# Altium schematic symbol library SIMBOLS_DATA_CONVERTERS.SchLib: 40 symbols
Pins are listed as number, name and electrical type; pins without a type are passive.

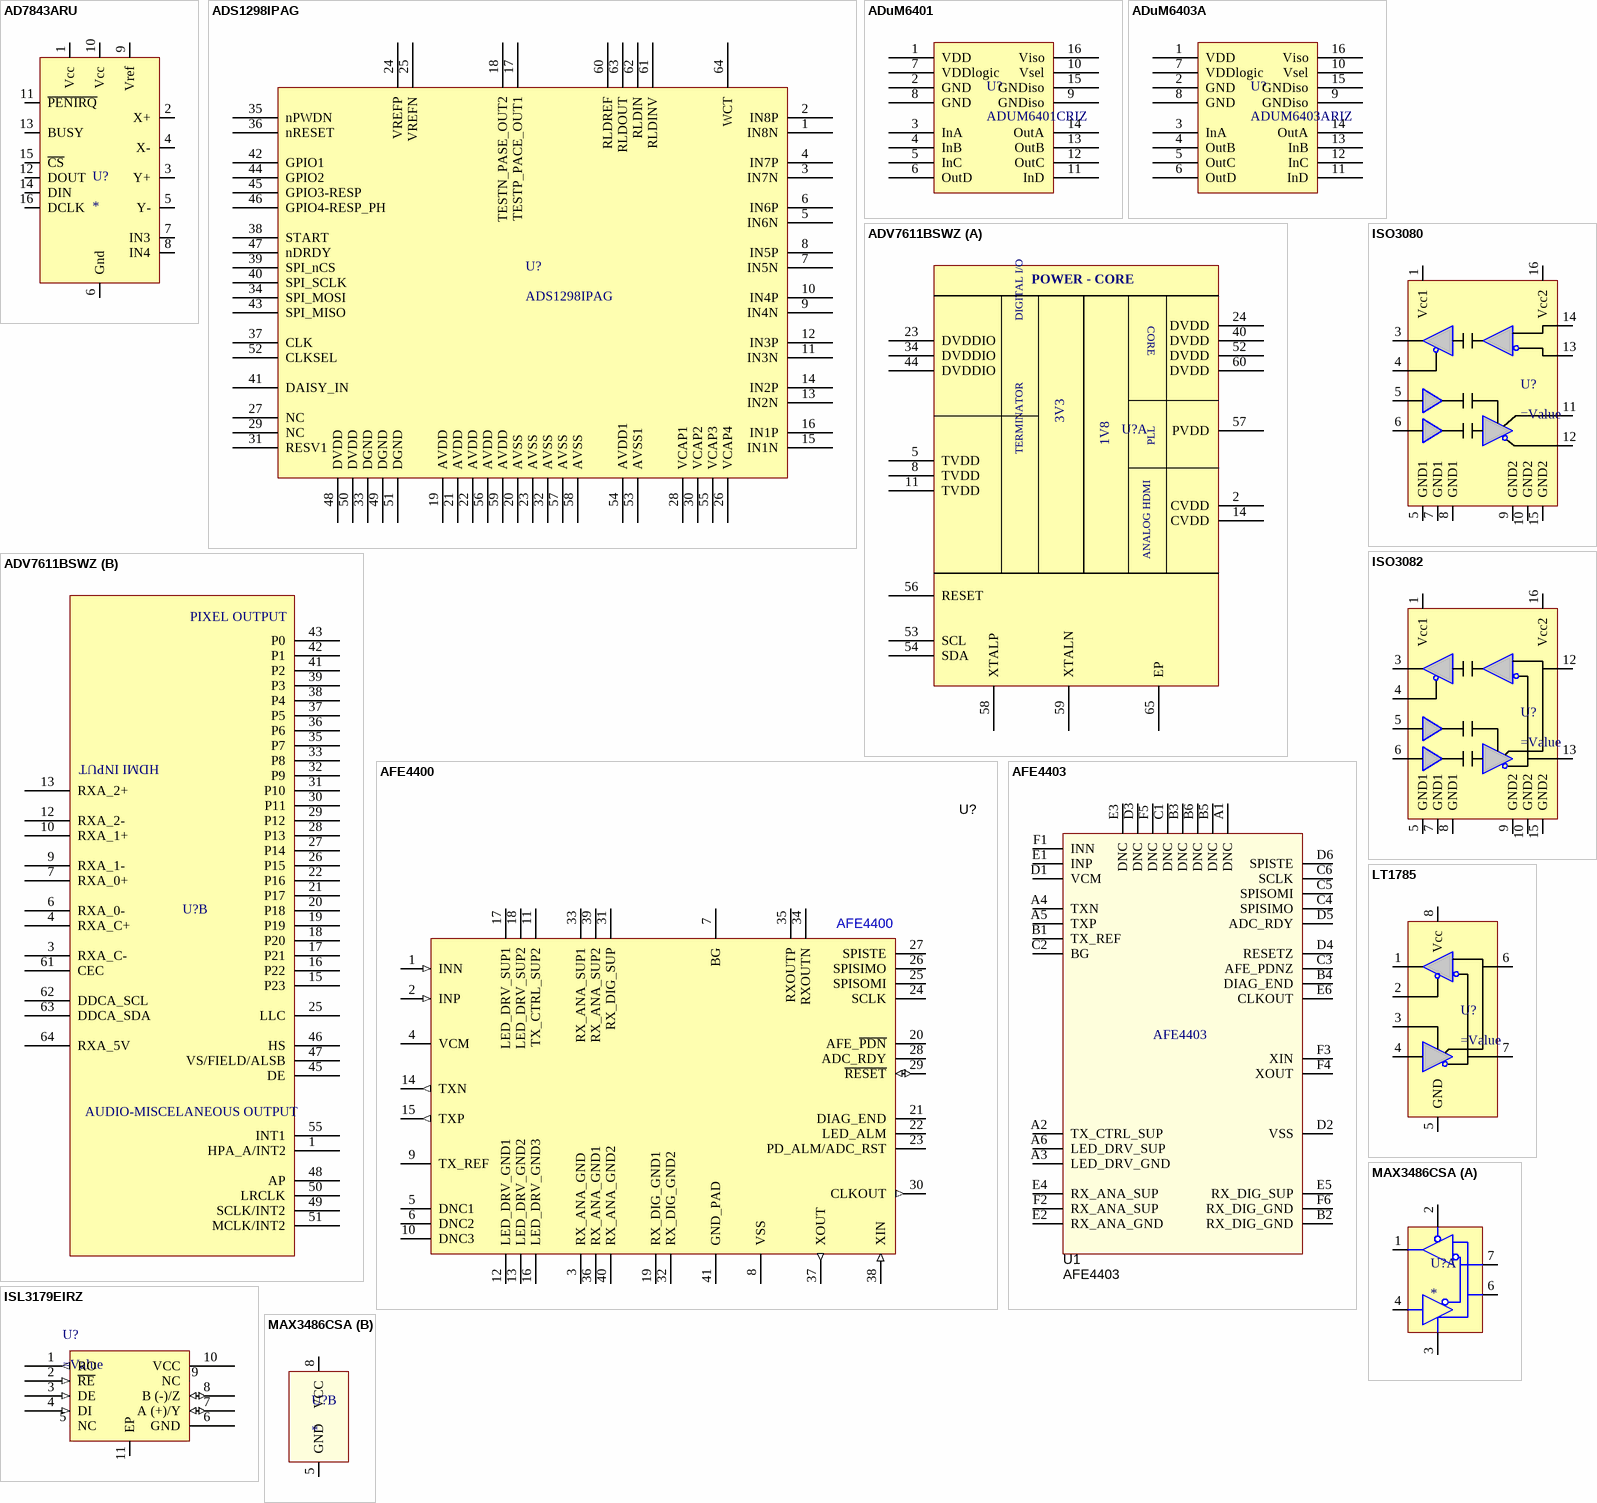
[diagram p0: symbols AD7843ARU to MAX3486CSA]

## AD7843ARU
designator U?
Touch Screen Digitizer
footprint TSSOP16
pins: 1 Vcc, 2 X+, 3 Y+, 4 X-, 5 Y-, 6 Gnd, 7 IN3, 8 IN4, 9 Vref, 10 Vcc, 11 ~{PENIRQ}, 12 DOUT, 13 BUSY, 14 DIN, 15 ~{CS}, 16 DCLK

## ADS1298IPAG
designator U?
Low-Power, 8-Channel, 24-Bit Analog Front-End for Biopotential Measurements
footprint SQFP50P1200X1200-64N (Shrink QFP, 64-Leads, Body 10x10mm, Pitch 0.5mm, IPC Medium Density)
pins: 1 IN8N, 2 IN8P, 3 IN7N, 4 IN7P, 5 IN6N, 6 IN6P, 7 IN5N, 8 IN5P, 9 IN4N, 10 IN4P, 11 IN3N, 12 IN3P, 13 IN2N, 14 IN2P, 15 IN1N, 16 IN1P, 17 TESTP_PACE_OUT1, 18 TESTN_PASE_OUT2, 19 AVDD, 20 AVSS, 21 AVDD, 22 AVDD, 23 AVSS, 24 VREFP, 25 VREFN, 26 VCAP4, 27 NC, 28 VCAP1, 29 NC, 30 VCAP2, 31 RESV1, 32 AVSS, 33 DGND, 34 SPI_MOSI, 35 nPWDN, 36 nRESET, 37 CLK, 38 START, 39 SPI_nCS, 40 SPI_SCLK, 41 DAISY_IN, 42 GPIO1, 43 SPI_MISO, 44 GPIO2, 45 GPIO3-RESP, 46 GPIO4-RESP_PH, 47 nDRDY, 48 DVDD, 49 DGND, 50 DVDD, 51 DGND, 52 CLKSEL, 53 AVSS1, 54 AVDD1, 55 VCAP3, 56 AVDD, 57 AVSS, 58 AVSS, 59 AVDD, 60 RLDREF, 61 RLDINV, 62 RLDIN, 63 RLDOUT, 64 WCT

## ADuM6401
designator U?, comment ADUM6401CRIZ
isolated DC/DC + quad channels
footprint SOIC127P1030-16CN (SOIC, 16-Leads, Body 10.5x7.5mm, Pitch 1.27mm, IPC Medium Density)
pins: 1 VDD, 2 GND, 3 InA, 4 InB, 5 InC, 6 OutD, 7 VDDlogic, 8 GND, 9 GNDiso, 10 Vsel, 11 InD, 12 OutC, 13 OutB, 14 OutA, 15 GNDiso, 16 Viso

## ADuM6403A
designator U?, comment ADUM6403ARIZ
isolated DC/DC + quad channels
footprint SOIC127P1030-16CN (SOIC, 16-Leads, Body 10.5x7.5mm, Pitch 1.27mm, IPC Medium Density)
pins: 1 VDD, 2 GND, 3 InA, 4 OutB, 5 OutC, 6 OutD, 7 VDDlogic, 8 GND, 9 GNDiso, 10 Vsel, 11 InD, 12 InC, 13 InB, 14 OutA, 15 GNDiso, 16 Viso

## ADV7611BSWZ
designator U?, comment HDMI INPUT  (value not drawn)
Low Power 165 MHz HDMI Receiver; Supplier 1: Farnell; Supplier Part Number 1: 1903660
footprint TSQFP50P1200X1200_HS-64L (Thin QFP, 64-Leads, Body 10x10mm, Pitch 0.5mm, Exposed Pad, IPC High Density)
part A pins: 2 CVDD (power) "Power", 5 TVDD (power) "Power", 8 TVDD (power) "Power", 11 TVDD (power) "Power", 14 CVDD (power) "Power", 23 DVDDIO (power) "Power", 24 DVDD (power) "Power", 34 DVDDIO (power) "Power", 40 DVDD (power) "Power", 44 DVDDIO (power) "Power", 52 DVDD (power) "Power", 53 SCL "Miscellaneous digital", 54 SDA "Miscellaneous digital", 56 RESET "Miscellaneous digital", 57 PVDD (power) "Power", 58 XTALP "Miscellaneous digital", 59 XTALN "Miscellaneous digital", 60 DVDD (power) "Power", 65 EP "Exposed Pad"
part B pins: 1 HPA_A/INT2 "Miscellaneous digital", 3 RXA_C- "HDMI input", 4 RXA_C+ "HDMI input", 6 RXA_0- "HDMI input", 7 RXA_0+ "HDMI input", 9 RXA_1- "HDMI input", 10 RXA_1+ "HDMI input", 12 RXA_2- "HDMI input", 13 RXA_2+ "HDMI input", 15 P23 "Digital video output", 16 P22 "Digital video output", 17 P21 "Digital video output", 18 P20 "Digital video output", 19 P19 "Digital video output", 20 P18 "Digital video output", 21 P17 "Digital video output", 22 P16 "Digital video output", 25 LLC "Digital video output", 26 P15 "Digital video output", 27 P14 "Digital video output", 28 P13 "Digital video output", 29 P12 "Digital video output", 30 P11 "Digital video output", 31 P10 "Digital video output", 32 P9 "Digital video output", 33 P8 "Digital video output", 35 P7 "Digital video output", 36 P6 "Digital video output", 37 P5 "Digital video output", 38 P4 "Digital video output", 39 P3 "Digital video output", 41 P2 "Digital video output", 42 P1 "Digital video output", 43 P0 "Digital video output", 45 DE "Miscellaneous digital", 46 HS "Digital video output", 47 VS/FIELD/ALSB "Digital input/output", 48 AP "Miscellaneous digital", 49 SCLK/INT2 "Miscellaneous digital", 50 LRCLK "Miscellaneous digital", 51 MCLK/INT2 "Miscellaneous digital", 55 INT1 "Miscellaneous digital", 61 CEC "Digital input/output", 62 DDCA_SCL "HDMI input", 63 DDCA_SDA "HDMI input", 64 RXA_5V "HDMI input"
part A text: POWER - CORE; DIGITAL I/O; CORE; 3V3; 1V8; PLL; TERMINATOR; ANALOG HDMI
part B text: PIXEL OUTPUT; AUDIO-MISCELANEOUS OUTPUT

## AFE4400
designator U?  value AFE4400
IC, INTEGRATED ANALOG FRONT-END FOR HEART RATE MONITORS AND LOW-COST PULSE OXIMETERS, QFN-40; MANUFACTURER: TEXAS INSTRUMENTS; POPULATE: Y; PART NUMBER: AFE4400; CONSIGNED: Y
pins: 1 INN (in), 2 INP (in), 3 RX_ANA_GND (power), 4 VCM (power), 5 DNC1, 6 DNC2, 7 BG, 8 VSS (power), 9 TX_REF (power), 10 DNC3, 11 TX_CTRL_SUP2 (power), 12 LED_DRV_GND1 (power), 13 LED_DRV_GND2 (power), 14 TXN (out), 15 TXP (out), 16 LED_DRV_GND3 (power), 17 LED_DRV_SUP1 (power), 18 LED_DRV_SUP2 (power), 19 RX_DIG_GND1 (power), 20 AFE_~{PDN} (power), 21 DIAG_END, 22 LED_ALM, 23 PD_ALM/ADC_RST, 24 SCLK, 25 SPISOMI, 26 SPISIMO, 27 SPISTE, 28 ADC_RDY, 29 ~{RESET} (io), 30 CLKOUT (out), 31 RX_DIG_SUP (power), 32 RX_DIG_GND2 (power), 33 RX_ANA_SUP1 (power), 34 RXOUTN, 35 RXOUTP, 36 RX_ANA_GND1 (power), 37 XOUT (out), 38 XIN (in), 39 RX_ANA_SUP2 (power), 40 RX_ANA_GND2 (power), 41 GND_PAD (power)

## AFE4403
designator U1
BGA, 36 PINS; Manufacturer: TEXAS INSTRUMENTS; Alternate Manufacturer: -; Alternate PartNumber: -; ComponentLink1Description: Datasheet Link; ComponentLink1URL: TBD; CompType: -; MountType: SMT; PackageReference: YZP; PartNumber: AFE4403; RoHS: TBD; SymbolCreator: -; SymbolVersion: 2013-11-08
footprint BGA36C50P6X6_304X304X50 (BGA, 0.5mm pitch, 6X6, 36 pins)
pins: A1 DNC, A2 TX_CTRL_SUP, A3 LED_DRV_GND (power), A4 TXN, A5 TXP, A6 LED_DRV_SUP, B1 TX_REF, B2 RX_DIG_GND (power), B3 DNC, B4 DIAG_END, B5 DNC, B6 DNC, C1 DNC, C2 BG, C3 AFE_PDNZ, C4 SPISIMO, C5 SPISOMI, C6 SCLK, D1 VCM, D2 VSS (power), D3 DNC, D4 RESETZ, D5 ADC_RDY, D6 SPISTE, E1 INP, E2 RX_ANA_GND (power), E3 DNC, E4 RX_ANA_SUP, E5 RX_DIG_SUP, E6 CLKOUT, F1 INN, F2 RX_ANA_SUP, F3 XIN, F4 XOUT, F5 DNC, F6 RX_DIG_GND (power)

## ISL3179EIRZ
designator U?
pins: 1 RO (out), 2 ~{RE} (in), 3 DE (in), 4 DI (in), 5 NC, 6 GND (power), 7 A (+)/Y (io), 8 B (-)/Z (io), 9 NC, 10 VCC (power), 11 EP (power)

## ISO3080
designator U?
pins: 1 Vcc1, 3 RO, 4 ~{RE}, 5 DE, 5 GND1, 6 DI, 7 GND1, 8 GND1, 9 GND2, 10 GND2, 11, 12 A, 13 B, 14, 15 GND2, 16 Vcc2

## ISO3082
designator U?
pins: 1 Vcc1, 3 RO, 4 ~{RE}, 5 DE, 5 GND1, 6 DI, 7 GND1, 8 GND1, 9 GND2, 10 GND2, 12 A, 13 B, 15 GND2, 16 Vcc2

## LT1785
designator U?
pins: 1 RO, 2 ~{RE}, 3 DE, 4 DI, 5 GND, 6 A, 7 B, 8 Vcc

## MAX3486CSA
designator U?
3.3V-Powered, 10Mbps and Slew-Rate-Limited  True RS-485/RS-422 Transceivers
footprint SOIC127P600-8N (SOIC, 8-Leads, Body 4.9x3.9mm, Pitch 1.27mm, IPC Medium Density)
part A pins: 1 R, 2 ~{RE}, 3 DE, 4 D, 6 A, 7 B
part B pins: 5 GND, 8 VCC

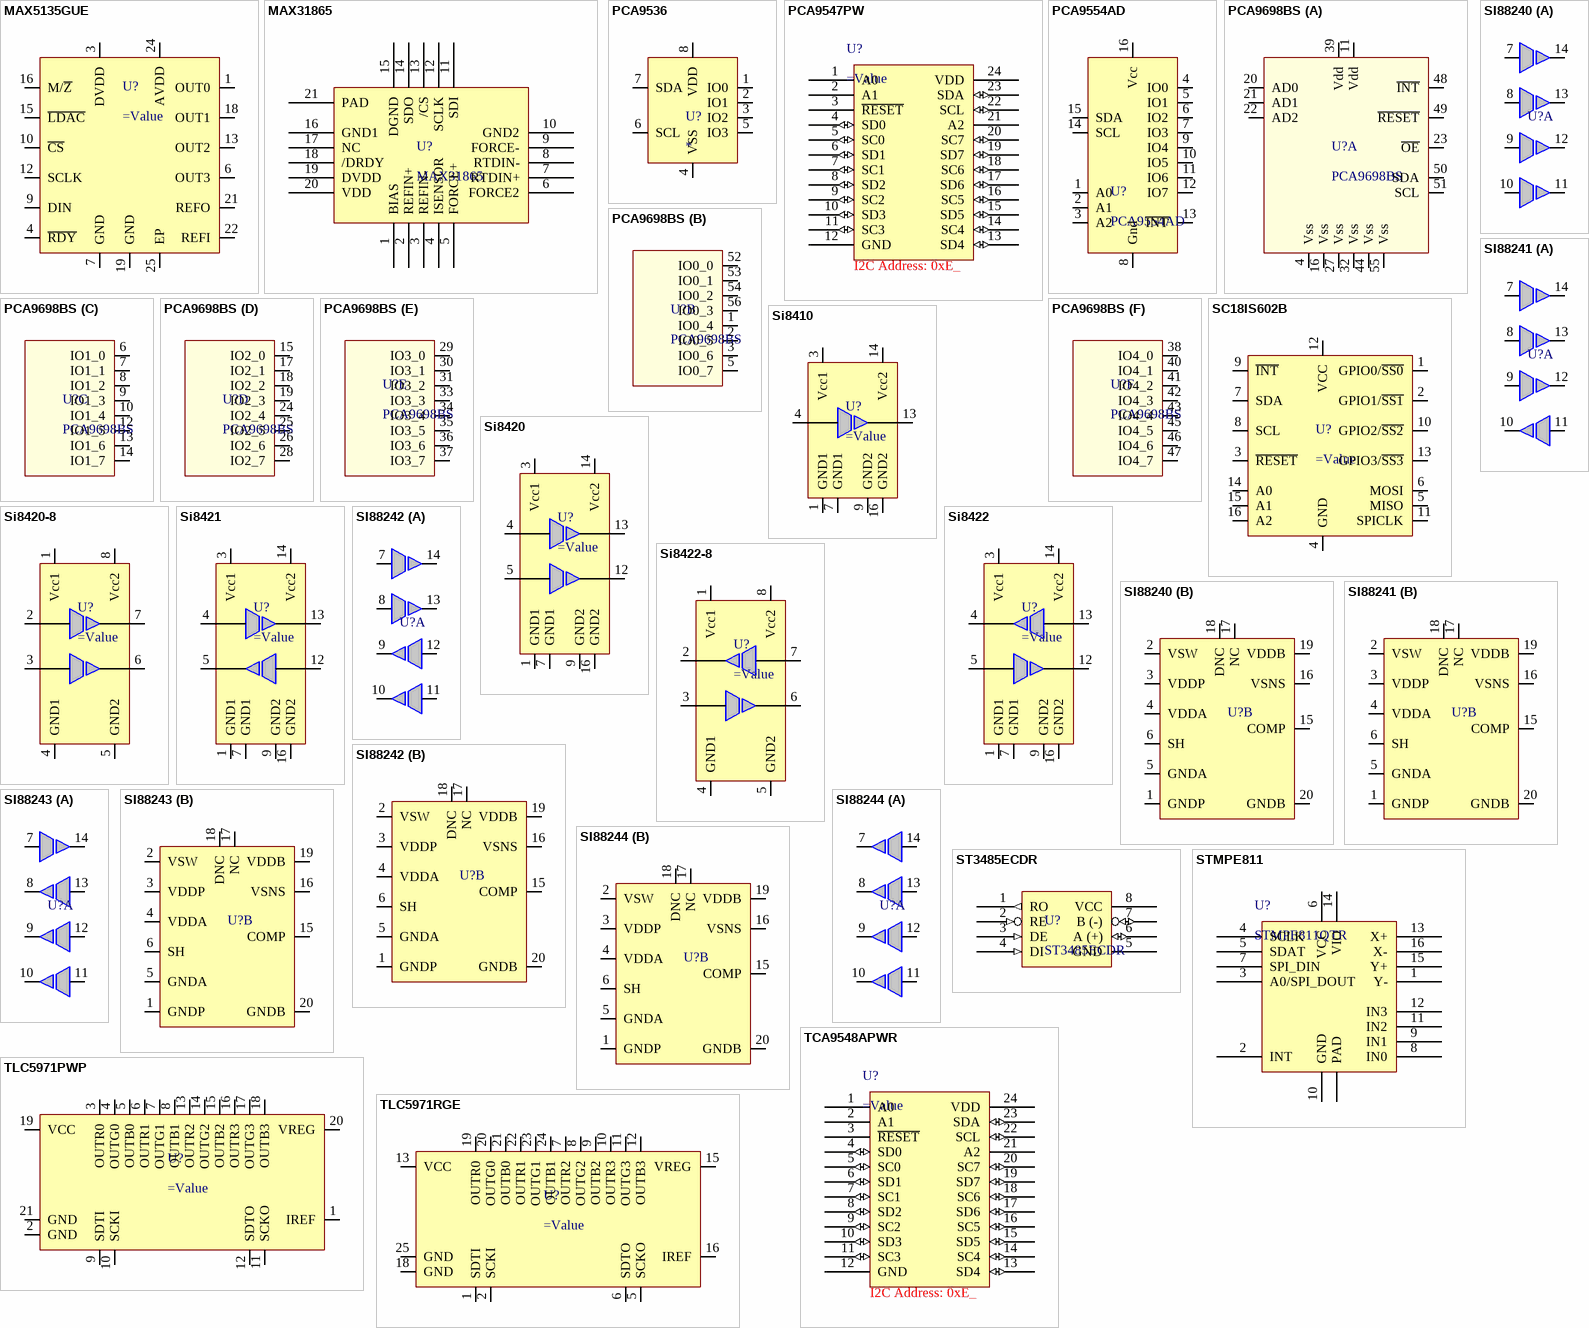
[diagram p1: symbols MAX5135GUE to TLC5971RGE]

## MAX5135GUE
designator U?
pins: 1 OUT0, 3 DVDD, 4 ~{RDY}, 6 OUT3, 7 GND, 9 DIN, 10 ~{CS}, 12 SCLK, 13 OUT2, 15 ~{LDAC}, 16 M/~{Z}, 18 OUT1, 19 GND, 21 REFO, 22 REFI, 24 AVDD, 25 EP

## MAX31865
designator U?
Part Number: MAX31865
pins: 1 BIAS, 2 REFIN+, 3 REFIN-, 4 ISENSOR, 5 FORCE+, 6 FORCE2, 7 RTDIN+, 8 RTDIN-, 9 FORCE-, 10 GND2, 11 SDI, 12 SCLK, 13 /CS, 14 SDO, 15 DGND, 16 GND1, 17 NC, 18 /DRDY, 19 DVDD, 20 VDD, 21 PAD

## PCA9536
designator U?
4-bit I2C-bus and SMBus I/O port
footprint TSSOP8
pins: 1 IO0, 2 IO1, 3 IO2, 4 VSS, 5 IO3, 6 SCL, 7 SDA, 8 VDD

## PCA9547PW
designator U?
pins: 1 A0, 2 A1, 3 ~{RESET}, 4 SD0 (io), 5 SC0 (io), 6 SD1 (io), 7 SC1 (io), 8 SD2 (io), 9 SC2 (io), 10 SD3 (io), 11 SC3 (io), 12 GND (power), 13 SD4 (io), 14 SC4 (io), 15 SD5 (io), 16 SC5 (io), 17 SD6 (io), 18 SC6 (io), 19 SD7 (io), 20 SC7 (io), 21 A2, 22 SCL (io), 23 SDA (io), 24 VDD (power)
text: I2C Address: 0xE_

## PCA9554AD
designator U?
8-bit I2C-bus and SMBus I/O port with interrupt
footprint SOIC127P1030-16N (SOIC, 16-Leads, Body 10.3x7.5mm, Pitch 1.27mm, IPC Medium Density)
pins: 1 A0, 2 A1, 3 A2, 4 IO0, 5 IO1, 6 IO2, 7 IO3, 8 Gnd, 9 IO4, 10 IO5, 11 IO6, 12 IO7, 13 ~{INT}, 14 SCL, 15 SDA, 16 Vcc

## PCA9698BS
designator U?
40 GPIO I2C EXPANDER; FARNELL: 2212105
footprint QFN50P800X800-56VBM (56-Pin Plastic Quad Flat No-Lead 0.5 mm Pitch)
part A pins: 4 Vss, 11 Vdd, 16 Vss, 20 AD0, 21 AD1, 22 AD2, 23 ~{OE}, 27 Vss, 32 Vss, 39 Vdd, 44 Vss, 48 ~{INT}, 49 ~{RESET}, 50 SDA, 51 SCL, 55 Vss
part B pins: 1 IO0_4, 2 IO0_5, 3 IO0_6, 5 IO0_7, 52 IO0_0, 53 IO0_1, 54 IO0_2, 56 IO0_3
part C pins: 6 IO1_0, 7 IO1_1, 8 IO1_2, 9 IO1_3, 10 IO1_4, 12 IO1_5, 13 IO1_6, 14 IO1_7
part D pins: 15 IO2_0, 17 IO2_1, 18 IO2_2, 19 IO2_3, 24 IO2_4, 25 IO2_5, 26 IO2_6, 28 IO2_7
part E pins: 29 IO3_0, 30 IO3_1, 31 IO3_2, 33 IO3_3, 34 IO3_4, 35 IO3_5, 36 IO3_6, 37 IO3_7
part F pins: 38 IO4_0, 40 IO4_1, 41 IO4_2, 42 IO4_3, 43 IO4_4, 45 IO4_5, 46 IO4_6, 47 IO4_7

## SC18IS602B
designator U?
pins: 1 GPIO0/~{SS0}, 2 GPIO1/~{SS1}, 3 ~{RESET}, 4 GND, 5 MISO, 6 MOSI, 7 SDA, 8 SCL, 9 ~{INT}, 10 GPIO2/~{SS2}, 11 SPICLK, 12 VCC, 13 GPIO3/~{SS3}, 14 A0, 15 A1, 16 A2

## Si8410
designator U?
pins: 1 GND1, 3 Vcc1, 4 A1, 7 GND1, 9 GND2, 13 B1, 14 Vcc2, 16 GND2

## Si8420
designator U?
pins: 1 GND1, 3 Vcc1, 4 A1, 5 A2, 7 GND1, 9 GND2, 12 B2, 13 B1, 14 Vcc2, 16 GND2

## Si8420-8
designator U?
pins: 1 Vcc1, 2 A1, 3 A2, 4 GND1, 5 GND2, 6 B2, 7 B1, 8 Vcc2

## Si8421
designator U?
pins: 1 GND1, 3 Vcc1, 4 A1, 5 A2, 7 GND1, 9 GND2, 12 B2, 13 B1, 14 Vcc2, 16 GND2

## Si8422
designator U?
pins: 1 GND1, 3 Vcc1, 4 A1, 5 A2, 7 GND1, 9 GND2, 12 B2, 13 B1, 14 Vcc2, 16 GND2

## Si8422-8
designator U?
pins: 1 Vcc1, 2 A1, 3 A2, 4 GND1, 5 GND2, 6 B2, 7 B1, 8 Vcc2

## SI88240
designator U?
part A pins: 7 A1, 8 A2, 9 A3, 10 A4, 11 B4, 12 B3, 13 B2, 14 B1
part B pins: 1 GNDP, 2 VSW, 3 VDDP, 4 VDDA, 5 GNDA, 6 SH, 15 COMP, 16 VSNS, 17 NC, 18 DNC, 19 VDDB, 20 GNDB

## SI88241
designator U?
part A pins: 7 A1, 8 A2, 9 A3, 10 A4, 11 B4, 12 B3, 13 B2, 14 B1
part B pins: 1 GNDP, 2 VSW, 3 VDDP, 4 VDDA, 5 GNDA, 6 SH, 15 COMP, 16 VSNS, 17 NC, 18 DNC, 19 VDDB, 20 GNDB

## SI88242
designator U?
part A pins: 7 A1, 8 A2, 9 A3, 10 A4, 11 B4, 12 B3, 13 B2, 14 B1
part B pins: 1 GNDP, 2 VSW, 3 VDDP, 4 VDDA, 5 GNDA, 6 SH, 15 COMP, 16 VSNS, 17 NC, 18 DNC, 19 VDDB, 20 GNDB

## SI88243
designator U?
part A pins: 7 A1, 8 A2, 9 A3, 10 A4, 11 B4, 12 B3, 13 B2, 14 B1
part B pins: 1 GNDP, 2 VSW, 3 VDDP, 4 VDDA, 5 GNDA, 6 SH, 15 COMP, 16 VSNS, 17 NC, 18 DNC, 19 VDDB, 20 GNDB

## SI88244
designator U?
part A pins: 7 A1, 8 A2, 9 A3, 10 A4, 11 B4, 12 B3, 13 B2, 14 B1
part B pins: 1 GNDP, 2 VSW, 3 VDDP, 4 VDDA, 5 GNDA, 6 SH, 15 COMP, 16 VSNS, 17 NC, 18 DNC, 19 VDDB, 20 GNDB

## ST3485ECDR
designator U?
pins: 1 RO (out), 2 RE (in), 3 DE (in), 4 DI (in), 5 GND (power), 6 A (+) (io), 7 B (-) (io), 8 VCC (power)

## STMPE811
designator U?, comment STMPE811QTR
S-Touch® advanced resistive touchscreen controller  with 8-bit GPIO expander
footprint QFN50P300X300 (QFN, 16-Leads, Body 3x3mm, Pitch 0.5mm, IPC Medium Density)
pins: 1 Y-, 2 INT, 3 A0/SPI_DOUT, 4 SCLK, 5 SDAT, 6 VCC, 7 SPI_DIN, 8 IN0, 9 IN1, 10 GND, 11 IN2, 12 IN3, 13 X+, 14 VIO, 15 Y+, 16 X-, 17 PAD

## TCA9548APWR
designator U?
pins: 1 A0, 2 A1, 3 ~{RESET}, 4 SD0 (io), 5 SC0 (io), 6 SD1 (io), 7 SC1 (io), 8 SD2 (io), 9 SC2 (io), 10 SD3 (io), 11 SC3 (io), 12 GND (power), 13 SD4 (io), 14 SC4 (io), 15 SD5 (io), 16 SC5 (io), 17 SD6 (io), 18 SC6 (io), 19 SD7 (io), 20 SC7 (io), 21 A2, 22 SCL (io), 23 SDA (io), 24 VDD (power)
text: I2C Address: 0xE_

## TLC5971PWP
designator U?
pins: 1 IREF, 2 GND, 3 OUTR0, 4 OUTG0, 5 OUTB0, 6 OUTR1, 7 OUTG1, 8 OUTB1, 9 SDTI, 10 SCKI, 11 SCKO, 12 SDTO, 13 OUTR2, 14 OUTG2, 15 OUTB2, 16 OUTR3, 17 OUTG3, 18 OUTB3, 19 VCC, 20 VREG, 21 GND

## TLC5971RGE
designator U?
pins: 1 SDTI, 2 SCKI, 5 SCKO, 6 SDTO, 7 OUTR2, 8 OUTG2, 9 OUTB2, 10 OUTR3, 11 OUTG3, 12 OUTB3, 13 VCC, 15 VREG, 16 IREF, 18 GND, 19 OUTR0, 20 OUTG0, 21 OUTB0, 22 OUTR1, 23 OUTG1, 24 OUTB1, 25 GND

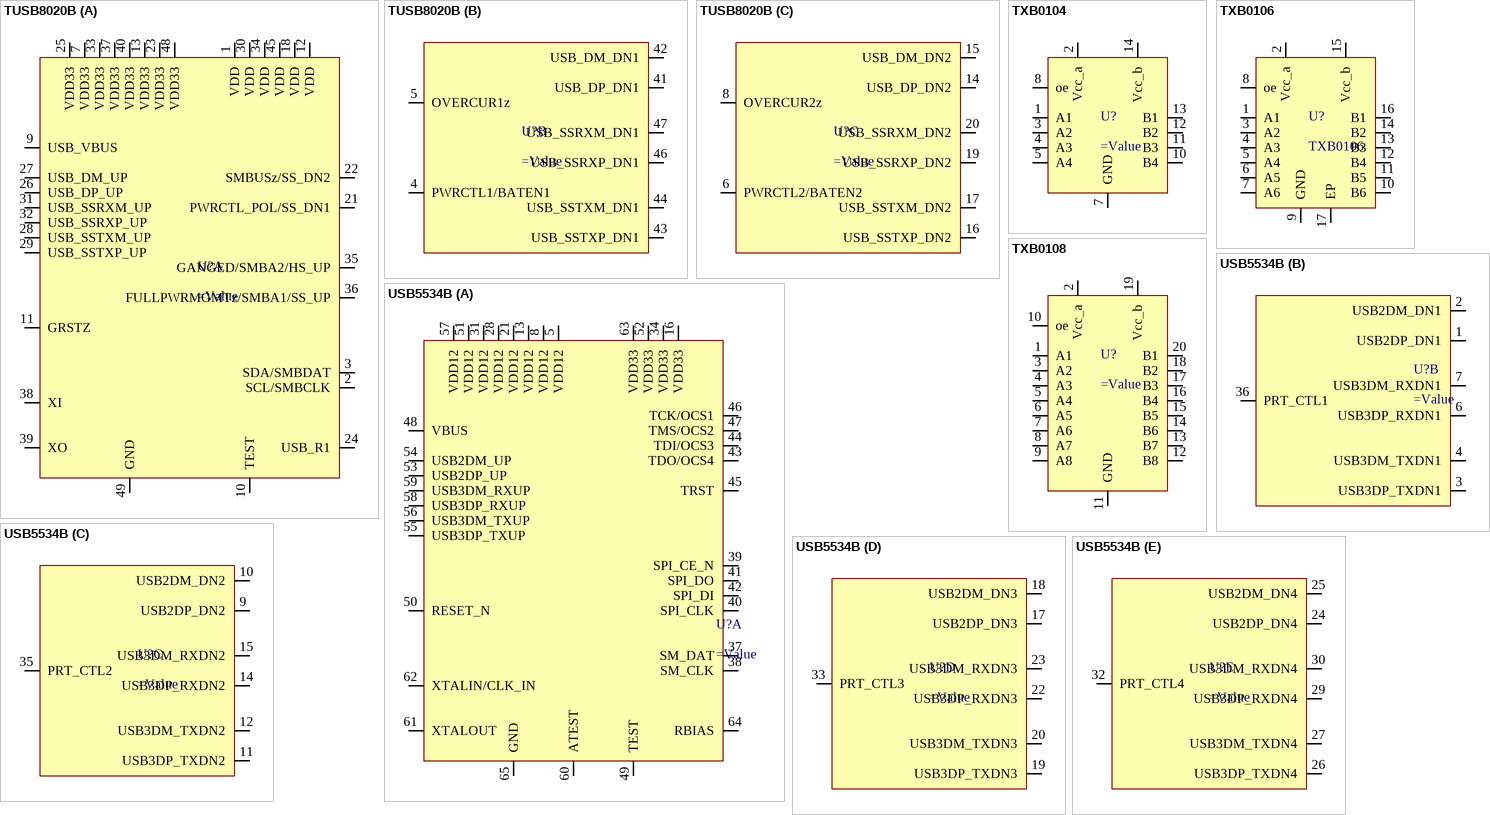
[diagram p2: symbols TUSB8020B to USB5534B]

## TUSB8020B
designator U?
Two-Port USB 3.0 HUB
part A pins: 1 VDD, 2 SCL/SMBCLK, 3 SDA/SMBDAT, 7 VDD33, 9 USB_VBUS, 10 TEST, 11 GRSTZ, 12 VDD, 13 VDD33, 18 VDD, 21 PWRCTL_POL/SS_DN1, 22 SMBUSz/SS_DN2, 23 VDD33, 24 USB_R1, 25 VDD33, 26 USB_DP_UP, 27 USB_DM_UP, 28 USB_SSTXM_UP, 29 USB_SSTXP_UP, 30 VDD, 31 USB_SSRXM_UP, 32 USB_SSRXP_UP, 33 VDD33, 34 VDD, 35 GANGED/SMBA2/HS_UP, 36 FULLPWRMGMTz/SMBA1/SS_UP, 37 VDD33, 38 XI, 39 XO, 40 VDD33, 45 VDD, 48 VDD33, 49 GND
part B pins: 4 PWRCTL1/BATEN1, 5 OVERCUR1z, 41 USB_DP_DN1, 42 USB_DM_DN1, 43 USB_SSTXP_DN1, 44 USB_SSTXM_DN1, 46 USB_SSRXP_DN1, 47 USB_SSRXM_DN1
part C pins: 6 PWRCTL2/BATEN2, 8 OVERCUR2z, 14 USB_DP_DN2, 15 USB_DM_DN2, 16 USB_SSTXP_DN2, 17 USB_SSTXM_DN2, 19 USB_SSRXP_DN2, 20 USB_SSRXM_DN2

## TXB0104
designator U?
4-BIT BIDIRECTIONAL VOLTAGE-LEVEL TRANSLATOR
pins: 1 A1, 2 Vcc_a, 3 A2, 4 A3, 5 A4, 7 GND (power), 8 oe, 10 B4, 11 B3, 12 B2, 13 B1, 14 Vcc_b

## TXB0106
designator U?
6-BIT BIDIRECTIONAL VOLTAGE-LEVEL TRANSLATOR
footprint PW016 (Shrink Small Outline; 16 Leads; Body Width 4.4 mm; Pitch 0.65 mm); pin to pad 17>none
pins: 1 A1, 2 Vcc_a, 3 A2, 4 A3, 5 A4, 6 A5, 7 A6, 8 oe, 9 GND (power), 10 B6, 11 B5, 12 B4, 13 B3, 14 B2, 15 Vcc_b, 16 B1, 17 EP (power)

## TXB0108
designator U?
8-BIT BIDIRECTIONAL VOLTAGE-LEVEL TRANSLATOR
pins: 1 A1, 2 Vcc_a, 3 A2, 4 A3, 5 A4, 6 A5, 7 A6, 8 A7, 9 A8 (power), 10 oe, 11 GND, 12 B8, 13 B7, 14 B6, 15 B5, 16 B4, 17 B3, 18 B2, 19 Vcc_b, 20 B1

## USB5534B
designator U?
part A pins: 5 VDD12, 8 VDD12, 13 VDD12, 16 VDD33, 21 VDD12, 28 VDD12, 31 VDD12, 34 VDD33, 37 SM_DAT, 38 SM_CLK, 39 SPI_CE_N, 40 SPI_CLK, 41 SPI_DO, 42 SPI_DI, 43 TDO/OCS4, 44 TDI/OCS3, 45 TRST, 46 TCK/OCS1, 47 TMS/OCS2, 48 VBUS, 49 TEST, 50 RESET_N, 51 VDD12, 52 VDD33, 53 USB2DP_UP, 54 USB2DM_UP, 55 USB3DP_TXUP, 56 USB3DM_TXUP, 57 VDD12, 58 USB3DP_RXUP, 59 USB3DM_RXUP, 60 ATEST, 61 XTALOUT, 62 XTALIN/CLK_IN, 63 VDD33, 64 RBIAS, 65 GND
part B pins: 1 USB2DP_DN1, 2 USB2DM_DN1, 3 USB3DP_TXDN1, 4 USB3DM_TXDN1, 6 USB3DP_RXDN1, 7 USB3DM_RXDN1, 36 PRT_CTL1
part C pins: 9 USB2DP_DN2, 10 USB2DM_DN2, 11 USB3DP_TXDN2, 12 USB3DM_TXDN2, 14 USB3DP_RXDN2, 15 USB3DM_RXDN2, 35 PRT_CTL2
part D pins: 17 USB2DP_DN3, 18 USB2DM_DN3, 19 USB3DP_TXDN3, 20 USB3DM_TXDN3, 22 USB3DP_RXDN3, 23 USB3DM_RXDN3, 33 PRT_CTL3
part E pins: 24 USB2DP_DN4, 25 USB2DM_DN4, 26 USB3DP_TXDN4, 27 USB3DM_TXDN4, 29 USB3DP_RXDN4, 30 USB3DM_RXDN4, 32 PRT_CTL4